# EAGLE library part FPC-12WAY (library pimoroni-fpc)
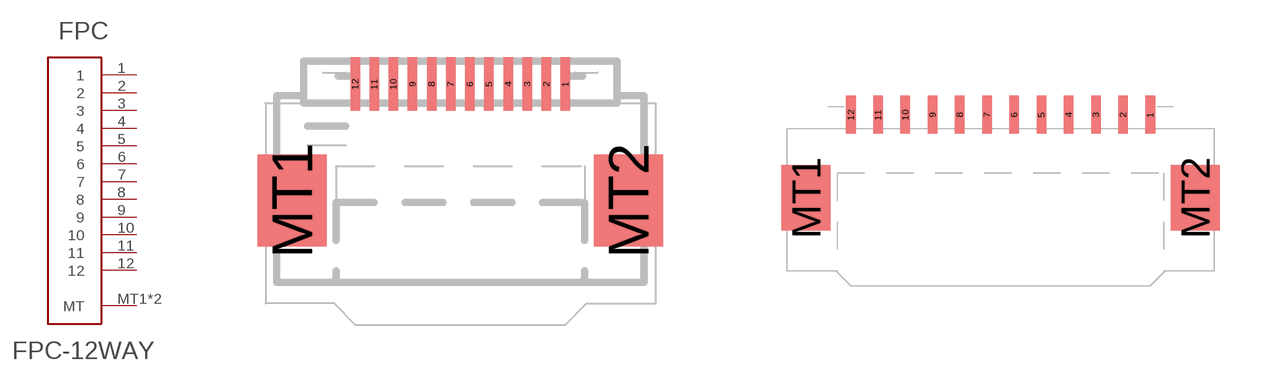
[diagram p7: symbol with the pads of FPC-0.5MM-12WAY; footprints FPC-0.5MM-12WAY, FPC-1.0MM-12WAY]

Designator prefix FPC

## FPC-12WAY0.5  [FPC-0.5MM-12WAY]
1  1
2  2
3  3
4  4
5  5
6  6
7  7
8  8
9  9
10  10
11  11
12  12
MT1  MT
MT2  MT

## FPC-12WAY1.0  [FPC-1.0MM-12WAY]
Pads as for FPC-0.5MM-12WAY

## Footprint FPC-0.5MM-12WAY (pad centres in mm)
smd 0.25 x 1.4: 1 2.75,0.7; 2 2.25,0.7; 3 1.75,0.7; 4 1.25,0.7; 5 0.75,0.7; 6 0.25,0.7; 7 -0.25,0.7; 8 -0.75,0.7; 9 -1.25,0.7; 10 -1.75,0.7; 11 -2.25,0.7; 12 -2.75,0.7
smd 1.8 x 2.4: MT1 -4.4,-2.35; MT2 4.4,-2.35

## Footprint FPC-1.0MM-12WAY (pad centres in mm)
smd 0.35 x 1.4: 1 5.5,0.7; 2 4.5,0.7; 3 3.5,0.7; 4 2.5,0.7; 5 1.5,0.7; 6 0.5,0.7; 7 -0.5,0.7; 8 -1.5,0.7; 9 -2.5,0.7; 10 -3.5,0.7; 11 -4.5,0.7; 12 -5.5,0.7
smd 1.8 x 2.4: MT1 -7.15,-2.35; MT2 7.15,-2.35